# Altium schematic symbol library AP64060WU.SchLib: 1 symbol
Pins are listed as number, name and electrical type; pins without a type are passive.

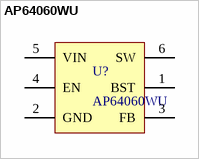
[diagram p0: symbol AP64060WU]

## AP64060WU
designator U?
IC REG BUCK ADJ 600MA TSOT26
pins: 1 BST (power), 2 GND (power), 3 FB (power), 4 EN (power), 5 VIN (power), 6 SW (power)